# EAGLE library part MCP4661-XXXX_ST (library SensorCape)
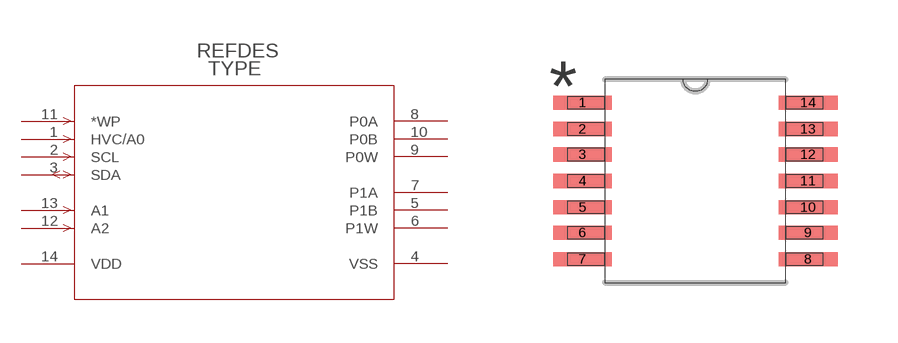
[diagram p12: symbol with the pads of TSSOP14_MC; footprint TSSOP14_MC]

Designator prefix -

## MCP4661-XXXX_ST  [TSSOP14_MC]
1  HVC/A0  pas
2  SCL  pas
3  SDA  pas
4  VSS  pas
5  P1B  pas
6  P1W  pas
7  P1A  pas
8  P0A  pas
9  P0W  pas
10  P0B  pas
11  *WP  pas
12  A2  pas
13  A1  pas
14  VDD  pas

## Footprint TSSOP14_MC (pad centres in mm)
smd 1.473 x 0.356: 1 -2.819,1.956; 2 -2.819,1.295; 3 -2.819,0.66; 4 -2.819,0; 5 -2.819,-0.66; 6 -2.819,-1.295; 7 -2.819,-1.956; 8 2.819,-1.956; 9 2.819,-1.295; 10 2.819,-0.66; 11 2.819,0; 12 2.819,0.66; 13 2.819,1.295; 14 2.819,1.956